# Altium footprint library Relay_THT.PcbLib: 117 footprints (part 4 of 8)
Each footprint in its own frame and in the unit in brackets; x right, y up, seen from the top. Pads: shape width x height; smd on the part's side, far side on the other; paste and mask are expansions set on the pad; w line width, h text height; cw(c..) or ccw(c..) is an arc to the next point about the centre after c.
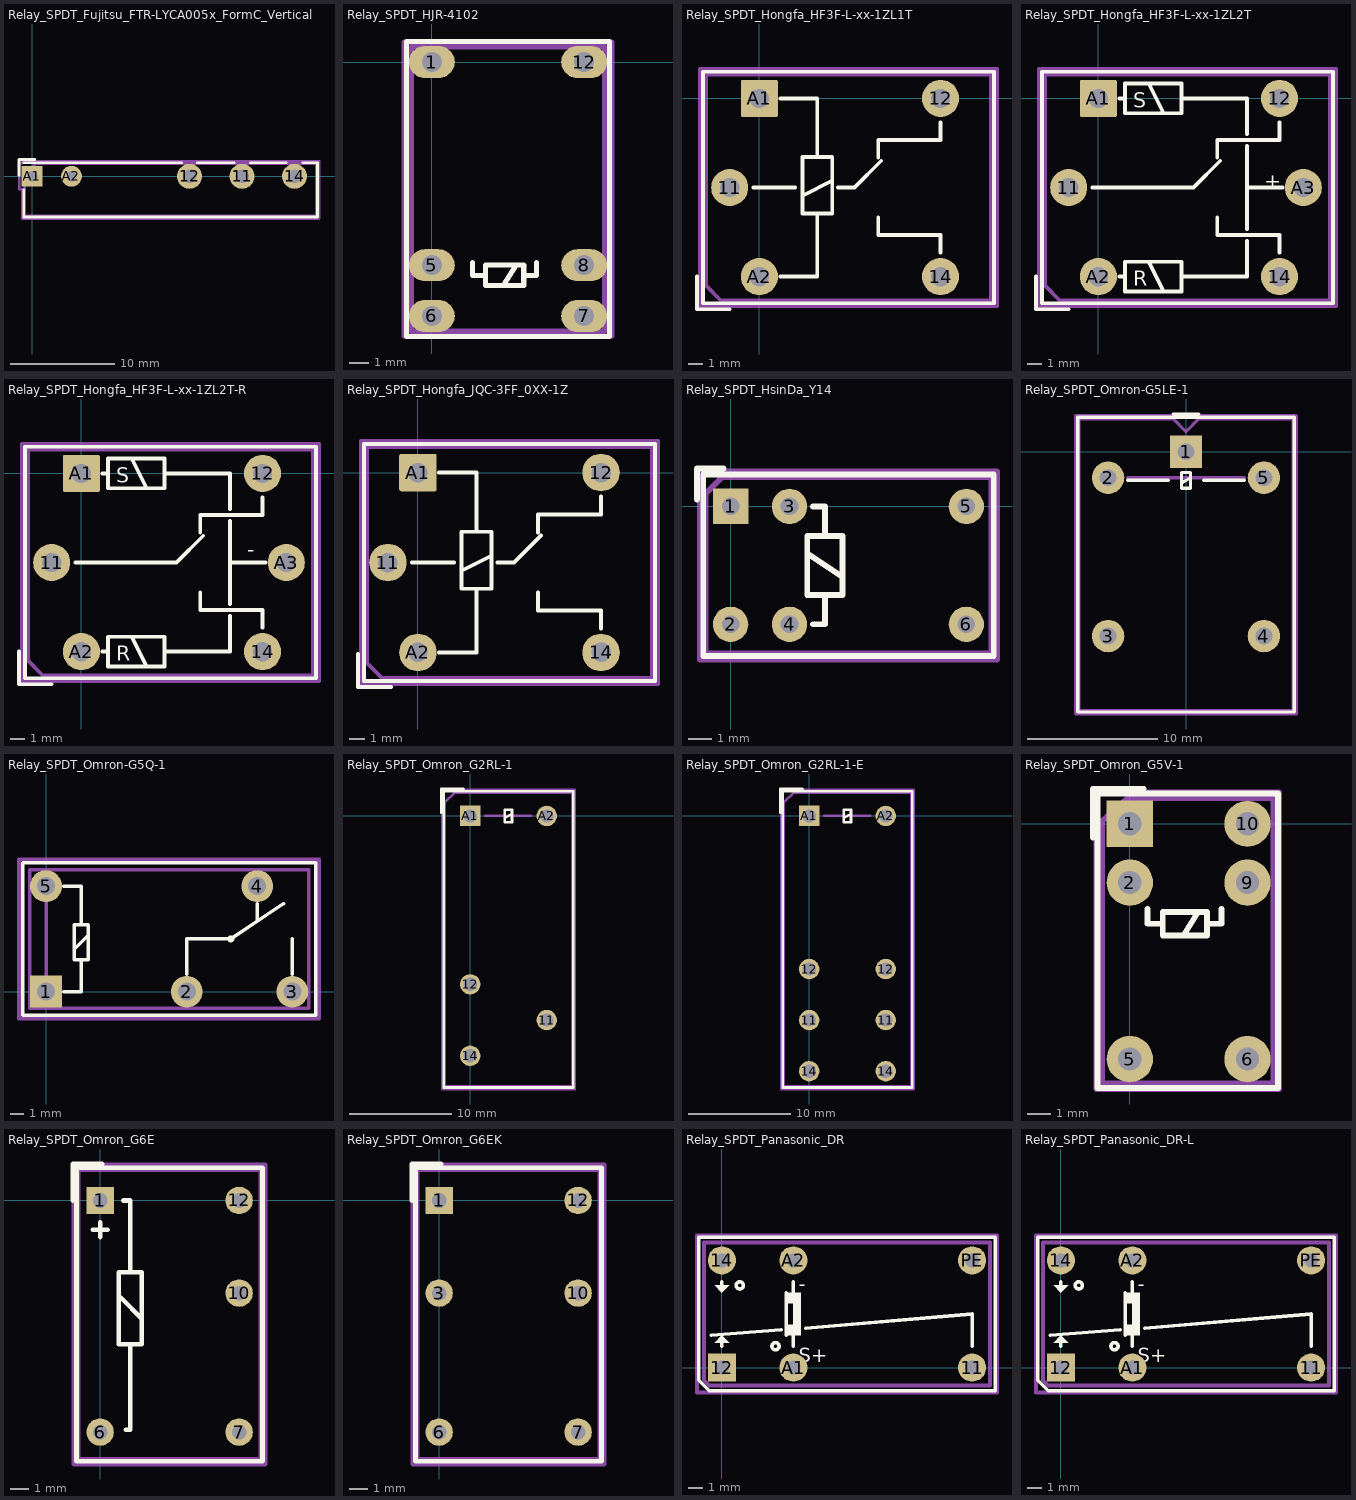
[diagram p3: the footprints below, top view; thin cyan lines are the x and y axes]

## Relay_SPDT_Fujitsu_FTR-LYCA005x_FormC_Vertical [mm]
pads (5):
  round 2.4 hole 1.3: 11(20.16,0) 12(15.12,0) 14(25.2,0)
  rect 2x2 hole 1: A1(0,0)
  round 2 hole 1: A2(3.78,0)
F.SilkS:
  lines w0.254: -1.26,0.11 -1.26,1.61 0.24,1.61 ; -0.81,-1.3 -0.81,-3.91 27.41,-3.91 27.41,1.31 26,1.31 ; -0.81,1.31 14.35,1.31 ; 15.87,1.31 19.4,1.31 ; 20.94,1.31 24.42,1.31
F.Fab:
  lines w0.254: -0.7,-3.8 27.3,-3.8 27.3,1.2 0.3,1.2 -0.7,0.2 -0.7,-3.8
  text "'.Designator'" at 9.253,-2.14 h1
F.CrtYd:
  lines w0.254: -1.25,-1.25 -0.95,-1.25 -0.95,-4.05 27.55,-4.05 27.55,1.45 -0.95,1.45 -0.95,1.25 -1.25,1.25 -1.25,-1.25

## Relay_SPDT_HJR-4102 [mm]
pads (6):
  rrect100% 2.3x1.6 hole 1: 1(0,0) 5(0,-10.16) 6(0,-12.7) 7(7.62,-12.7) 8(7.62,-10.16) 12(7.62,0)
F.SilkS:
  lines w0.254: 2.032,-10.033 2.032,-10.668 2.692,-10.668 ; 3.581,-11.176 4.216,-10.16 ; 4.597,-10.668 5.232,-10.668 5.232,-10.033 ; -1.27,-13.716 -1.27,1.016 8.89,1.016 8.89,-13.716 -1.27,-13.716 ; 2.692,-11.176 2.692,-10.16 4.597,-10.16 4.597,-11.176 2.692,-11.176
F.Fab:
  lines w0.254: -1.016,-13.462 -1.016,0.762 8.636,0.762 8.636,-13.462 -1.016,-13.462
  text "'.Designator'" at -0.237,-7.19 h1
F.CrtYd:
  lines w0.254: -1.4,-13.71 -1.4,1.01 9.02,1.01 9.02,-13.71 -1.4,-13.71
3D body "Relay_SPDT_HJR-4102.step": height 11.4, standoff -3.6, extent -1.35,-14.45 9.05,1.25

## Relay_SPDT_Hongfa_HF3F-L-xx-1ZL1T [mm]
pads (5):
  round 2.5 hole 1.3: 11(-2,-6) 12(12.2,0) 14(12.2,-12) A2(0,-12)
  rrect10% 2.5x2.5 hole 1.3: A1(0,0)
F.SilkS:
  lines w0.254: -4.2,-12 -4.2,-14.2 -2,-14.2 ; -0.4,-6 2.4,-6 ; 1.4,-12 3.9,-12 3.9,-7.75 ; 1.4,0 3.9,0 3.9,-3.95 ; 2.9,-6.55 4.9,-5.55 ; 5.3,-6 6.4,-6 8.2,-4.2 ; 8,-8 8,-9.2 12.2,-9.2 12.2,-10.4 ; 8,-4 8,-2.8 12.2,-2.8 12.2,-1.6 ; -3.8,-13.8 15.8,-13.8 15.8,1.8 -3.8,1.8 -3.8,-13.8 ; 2.9,-7.75 4.9,-7.75 4.9,-3.95 2.9,-3.95 2.9,-7.75
F.Fab:
  lines w0.254: -3.6,-12.6 -2.6,-13.6 15.6,-13.6 15.6,1.6 -3.6,1.6 -3.6,-12.6
  text "'.Designator'" at 2.153,-6.84 h1
F.CrtYd:
  lines w0.254: -4,-14 16,-14 16,2 -4,2 -4,-14

## Relay_SPDT_Hongfa_HF3F-L-xx-1ZL2T [mm]
pads (6):
  round 2.5 hole 1.3: 11(-2,-6) 12(12.2,0) 14(12.2,-12) A2(0,-12) A3(13.8,-6)
  rrect10% 2.5x2.5 hole 1.3: A1(0,0)
F.SilkS:
  lines w0.254: -4.2,-12 -4.2,-14.2 -2,-14.2 ; -0.4,-6 6.4,-6 8.2,-4.2 ; 1.4,-12 1.8,-12 ; 1.4,0 1.8,0 ; 3.4,-11 4.4,-13 ; 3.4,1 4.4,-1 ; 5.6,-12 10,-12 10,-9.6 ; 5.6,0 10,0 10,-2.4 ; 8,-8 8,-9.2 12.2,-9.2 12.2,-10.4 ; 8,-4 8,-2.8 12.2,-2.8 12.2,-1.6 ; 10,-8.8 10,-3.2 ; 10,-6 12.4,-6 ; -3.8,-13.8 -3.8,1.8 15.8,1.8 15.8,-13.8 -3.8,-13.8 ; 1.8,-13 1.8,-11 5.6,-11 5.6,-13 1.8,-13 ; 1.8,-1 1.8,1 5.6,1 5.6,-1 1.8,-1
  text "S" at 2.347,-0.62 h1
  text "R" at 2.347,-12.62 h1
  text "+" at 11.18,-6.048 h1
F.Fab:
  lines w0.254: -3.6,-12.6 -3.6,1.6 15.6,1.6 15.6,-13.6 -2.6,-13.6 -3.6,-12.6
  text "'.Designator'" at 2.153,-6.84 h1
F.CrtYd:
  lines w0.254: -4,-14 -4,2 16,2 16,-14 -4,-14

## Relay_SPDT_Hongfa_HF3F-L-xx-1ZL2T-R [mm]
pads (6):
  round 2.5 hole 1.3: 11(-2,-6) 12(12.2,0) 14(12.2,-12) A2(0,-12) A3(13.8,-6)
  rrect10% 2.5x2.5 hole 1.3: A1(0,0)
F.SilkS:
  lines w0.254: -4.2,-12 -4.2,-14.2 -2,-14.2 ; -0.4,-6 6.4,-6 8.2,-4.2 ; 1.4,-12 1.8,-12 ; 1.4,0 1.8,0 ; 3.4,-11 4.4,-13 ; 3.4,1 4.4,-1 ; 5.6,-12 10,-12 10,-9.6 ; 5.6,0 10,0 10,-2.4 ; 8,-8 8,-9.2 12.2,-9.2 12.2,-10.4 ; 8,-4 8,-2.8 12.2,-2.8 12.2,-1.6 ; 10,-8.8 10,-3.2 ; 10,-6 12.4,-6 ; -3.8,-13.8 -3.8,1.8 15.8,1.8 15.8,-13.8 -3.8,-13.8 ; 1.8,-13 1.8,-11 5.6,-11 5.6,-13 1.8,-13 ; 1.8,-1 1.8,1 5.6,1 5.6,-1 1.8,-1
  text "S" at 2.347,-0.62 h1
  text "R" at 2.347,-12.62 h1
  text "-" at 11.18,-5.62 h1
F.Fab:
  lines w0.254: -3.6,-12.6 -3.6,1.6 15.6,1.6 15.6,-13.6 -2.6,-13.6 -3.6,-12.6
  text "'.Designator'" at 2.153,-6.84 h1
F.CrtYd:
  lines w0.254: -4,-14 -4,2 16,2 16,-14 -4,-14

## Relay_SPDT_Hongfa_JQC-3FF_0XX-1Z [mm]
pads (5):
  round 2.5 hole 1.3: 11(-2,-6) 12(12.2,0) 14(12.2,-12) A2(0,-12)
  rrect10% 2.5x2.5 hole 1.3: A1(0,0)
F.SilkS:
  lines w0.254: -4,-12.1 -4,-14.3 -1.8,-14.3 ; -0.4,-6 2.4,-6 ; 1.4,-12 3.9,-12 3.9,-7.75 ; 1.4,0 3.9,0 3.9,-3.95 ; 2.9,-6.55 4.9,-5.55 ; 5.3,-6 6.4,-6 8.2,-4.2 ; 8,-8 8,-9.2 12.2,-9.2 12.2,-10.4 ; 8,-4 8,-2.8 12.2,-2.8 12.2,-1.6 ; -3.6,-13.9 15.8,-13.9 15.8,1.9 -3.6,1.9 -3.6,-13.9 ; 2.9,-7.75 4.9,-7.75 4.9,-3.95 2.9,-3.95 2.9,-7.75
F.Fab:
  lines w0.254: -3.4,-12.7 -2.4,-13.7 15.6,-13.7 15.6,1.7 -3.4,1.7 -3.4,-12.7
  text "'.Designator'" at 2.153,-6.84 h1
F.CrtYd:
  lines w0.254: -3.8,-14.1 16,-14.1 16,2.1 -3.8,2.1 -3.8,-14.1

## Relay_SPDT_HsinDa_Y14 [mil]
pads (6):
  rect 60x60 hole 30: 1(0,0)
  round 60 hole 30: 2(0,-200) 3(100,0) 4(100,-200) 5(400,0) 6(400,-200)
F.SilkS:
  lines w10: -57,11.5 -57,64 -12,64 ; 130,-80 190,-120 ; 140,-200 160,-200 160,-150 ; 140,0 160,0 160,-50 ; -46.46,-253.94 -46.46,53.94 446.46,53.94 446.46,-253.94 -46.46,-253.94 ; 130,-150 130,-50 190,-50 190,-150 130,-150
F.Fab:
  lines w10: -42.5,21.5 -15,49 ; -42.13,21.5 -42.13,-249.61 442.13,-249.61 442.13,49.61 -15,49.61
  text "'.Designator'" at 150.68,-133.08 h39.37
F.CrtYd:
  lines w10: -51.97,-259.45 -51.97,59.45 451.97,59.45 451.97,-259.45 -51.97,-259.45
3D body "Relay_SPDT_HsinDa_Y14.step": height 405.51, standoff -137.8, extent -42.13,-249.61 442.13,49.61

## Relay_SPDT_Omron-G5LE-1 [mm]
pads (5):
  rect 2.5x2.5 hole 1.3: 1(0,0)
  rrect100% 2.5x2.5 hole 1.3: 2(-6,-2) 3(-6,-14.2) 4(6,-14.2) 5(6,-2)
F.SilkS:
  lines w0.254: -4.5,-2.2 -1.35,-2.2 ; -1,2.91 1,2.91 ; -0.35,-2.4 0.35,-2 ; 1.35,-2.2 4.5,-2.2 ; -8.35,-20.05 -8.35,2.65 8.35,2.65 8.35,-20.05 -8.35,-20.05 ; -0.35,-2.8 -0.35,-1.6 0.35,-1.6 0.35,-2.8 -0.35,-2.8
F.Fab:
  lines w0.254: -4.5,-2 4.5,-2 ; -8.25,-19.95 -8.25,2.55 -1,2.55 0,1.55 1,2.55 8.25,2.55 8.25,-19.95 -8.25,-19.95
  text "'.Designator'" at -4.047,-9.54 h1
F.CrtYd:
  lines w0.254: -8.5,-20.2 -8.5,2.8 8.5,2.8 8.5,-20.2 -8.5,-20.2
3D body "Relay_SPDT_Omron-G5LE-1.step": height 19.1, standoff -3.4, extent -8.25,-19.95 8.25,2.55

## Relay_SPDT_Omron-G5Q-1 [mm]
pads (5):
  rect 2.3x2.3 hole 1.3: 1(0,0)
  round 2.3 hole 1.3: 2(10.16,0) 3(17.78,0) 4(15.24,7.62) 5(0,7.62)
F.SilkS:
  circle w0.254: c13.335,3.81 r0.127
  lines w0.254: 1.27,0 2.54,0 2.54,2.29 ; 1.27,7.62 2.54,7.62 2.54,4.83 ; 2.03,3.05 3.05,4.06 ; 10.16,1.27 10.16,3.81 13.335,3.81 17.145,6.35 ; 15.24,5.08 15.24,6.35 ; 17.78,1.27 17.78,3.81 ; 2.54,2.29 3.05,2.29 3.05,4.83 2.54,4.83 ; 2.54,2.29 2.03,2.29 2.03,4.83 2.54,4.83 ; -1.68,-1.69 19.46,-1.69 19.46,9.31 -1.68,9.31 -1.68,-1.69
F.Fab:
  lines w0.254: 0,1 0,6.5 ; -1.18,-1.19 18.96,-1.19 18.96,8.81 -1.18,8.81 -1.18,-1.19
  text "'.Designator'" at 4.843,2.97 h1
F.CrtYd:
  lines w0.254: -1.95,-1.95 19.7,-1.95 19.7,9.55 -1.95,9.55 -1.95,-1.95

## Relay_SPDT_Omron_G2RL-1 [mm]
pads (5):
  round 2 hole 1.3: 11(7.5,-20) 12(0,-16.5) 14(0,-23.5) A2(7.5,0)
  rect 2x2 hole 1.3: A1(0,0)
F.SilkS:
  lines w0.254: -2.84,0.3 -2.84,2.64 -0.65,2.64 ; 3.4,-0.2 4.1,0.2 ; -2.6,-26.6 10.1,-26.6 10.1,2.4 -2.6,2.4 -2.6,-26.6 ; 3.4,-0.6 4.1,-0.6 4.1,0.6 3.4,0.6 3.4,-0.6
F.Fab:
  lines w0.254: 1.5,0 6,0 ; -2.5,-26.5 10,-26.5 10,2.3 -1.5,2.3 -2.5,1.3 -2.5,-26.5
  text "'.Designator'" at 4.59,-16.047 h1
F.CrtYd:
  lines w0.254: -2.75,-26.75 10.25,-26.75 10.25,2.55 -2.75,2.55 -2.75,-26.75

## Relay_SPDT_Omron_G2RL-1-E [mm]
pads (8):
  round 2 hole 1.3: 11(0,-20) 11(7.5,-20) 12(0,-15) 12(7.5,-15) 14(0,-25) 14(7.5,-25) A2(7.5,0)
  rect 2x2 hole 1.3: A1(0,0)
F.SilkS:
  lines w0.254: -2.84,0.3 -2.84,2.64 -0.65,2.64 ; 3.4,-0.2 4.1,0.2 ; -2.6,-26.6 10.1,-26.6 10.1,2.4 -2.6,2.4 -2.6,-26.6 ; 3.4,-0.6 4.1,-0.6 4.1,0.6 3.4,0.6 3.4,-0.6
F.Fab:
  lines w0.254: 1.5,0 6,0 ; -2.5,-26.5 10,-26.5 10,2.3 -1.5,2.3 -2.5,1.3 -2.5,-26.5
  text "'.Designator'" at 4.59,-16.047 h1
F.CrtYd:
  lines w0.254: -2.75,-26.75 10.25,-26.75 10.25,2.55 -2.75,2.55 -2.75,-26.75

## Relay_SPDT_Omron_G5V-1 [mm]
pads (6):
  rect 2x2 hole 1: 1(0,0)
  round 2 hole 1: 2(0,-2.54) 5(0,-10.16) 6(5.08,-10.16) 9(5.08,-2.54) 10(5.08,0)
F.SilkS:
  lines w0.254: -1.6,-0.6 -1.6,1.5 0.6,1.5 ; 0.762,-3.683 0.762,-4.318 1.422,-4.318 ; 2.311,-4.826 2.946,-3.81 ; 3.327,-4.318 3.962,-4.318 3.962,-3.683 ; -1.4,-11.4 -1.4,1.3 6.4,1.3 6.4,-11.4 -1.4,-11.4 ; 1.422,-4.826 1.422,-3.81 3.327,-3.81 3.327,-4.826 1.422,-4.826
F.Fab:
  lines w0.254: -1.2,-11.2 -1.2,0.1 -0.1,1.1 6.2,1.1 6.2,-11.2 -1.2,-11.2
  text "'.Designator'" at -1.507,-7.19 h1
F.CrtYd:
  lines w0.254: -1.45,-11.45 -1.45,1.35 6.45,1.35 6.45,-11.45 -1.45,-11.45
3D body "Relay_SPDT_Omron_G5V-1.step": height 10, standoff -3.4, extent -1.11,-11.23 6.19,1.07

## Relay_SPDT_Omron_G6E [mil]
pads (5):
  rect 59.1x59.1 hole 31.5: 1(0,0)
  round 59.1 hole 31.5: 6(0,-500) 7(300,-500) 10(300,-200) 12(300,0)
F.SilkS:
  lines w10: -59.06,0 -59.06,78.74 3.94,78.74 ; -15.75,-62.99 15.75,-62.99 ; 0,-78.74 0,-47.24 ; 45,-210 90,-255 ; 50,0 65,0 65,-150 ; 55,-495 65,-495 65,-310 ; -51.18,-562.99 -51.18,70.87 350.39,70.87 350.39,-562.99 -51.18,-562.99 ; 40,-310 40,-155 90,-155 90,-310 40,-310
F.Fab:
  lines w10: -47.24,-559.06 -47.24,66.93 346.46,66.93 346.46,-559.06 -47.24,-559.06
  text "'.Designator'" at -9.32,-283.08 h39.37
F.CrtYd:
  lines w10: -57.09,-568.9 -57.09,76.77 356.3,76.77 356.3,-568.9 -57.09,-568.9
3D body "Relay_SPDT_Omron_G6E.step": height 311.02, standoff -133.86, extent -46.85,-561.02 342.91,64.96

## Relay_SPDT_Omron_G6EK [mil]
pads (6):
  rect 59.1x59.1 hole 31.5: 1(0,0)
  round 59.1 hole 31.5: 3(0,-200) 6(0,-500) 7(300,-500) 10(300,-200) 12(300,0)
F.SilkS:
  lines w10: -59.06,0 -59.06,78.74 3.94,78.74 ; -51.18,-562.99 -51.18,70.87 350.39,70.87 350.39,-562.99 -51.18,-562.99
F.Fab:
  lines w10: -47.24,-559.06 -47.24,66.93 346.46,66.93 346.46,-559.06 -47.24,-559.06
  text "'.Designator'" at -9.32,-283.08 h39.37
F.CrtYd:
  lines w10: -57.09,-568.9 -57.09,76.77 356.3,76.77 356.3,-568.9 -57.09,-568.9
3D body "Relay_SPDT_Omron_G6EK.step": height 311.02, standoff -133.86, extent -46.85,-561.02 342.91,64.96

## Relay_SPDT_Panasonic_DR [mm]
pads (6):
  round 2 hole 1: 11(17.78,0) 14(0,7.62) A1(5.08,0) A2(5.08,7.62) PE(17.78,7.62)
  rect 2x2 hole 1: 12(0,0)
F.SilkS:
  circle w0.254: c3.81,1.524 r0.254
  circle w0.254: c1.27,5.842 r0.254
  region: 5.59,2.286 4.572,2.286 4.572,3.048 5.08,3.048 5.08,4.572 4.572,4.572 4.572,5.334 5.589,5.334
  region: 0.508,1.778 -0.508,1.778 0,2.286
  region: 0,5.334 -0.508,5.842 0.508,5.842
  lines w0.254: -0.762,2.286 4.216,2.692 ; 0,1.524 0,1.778 ; 0,5.842 0,6.096 ; 4.572,2.286 4.572,5.334 ; 5.08,1.524 5.08,2.286 ; 5.08,5.334 5.08,6.096 ; 5.944,2.794 17.78,3.81 17.78,1.524 ; -1.651,-0.89 -0.89,-1.651 19.431,-1.651 19.431,9.271 -1.651,9.271 -1.651,-0.89
  text "S+" at 5.468,0.396 h1
  text "-" at 5.468,5.468 h1
F.Fab:
  lines w0.254: -1.27,-0.89 -0.89,-1.27 19.05,-1.27 19.05,8.89 -1.27,8.89 -1.27,-0.89
  text "'.Designator'" at 5.478,2.652 h1
F.CrtYd:
  lines w0.254: -1.77,-1.77 19.55,-1.77 19.55,9.39 -1.77,9.39 -1.77,-1.77

## Relay_SPDT_Panasonic_DR-L [mm]
pads (6):
  round 2 hole 1: 11(17.78,0) 14(0,7.62) A1(5.08,0) A2(5.08,7.62) PE(17.78,7.62)
  rect 2x2 hole 1: 12(0,0)
F.SilkS:
  circle w0.254: c1.27,5.842 r0.254
  circle w0.254: c3.81,1.524 r0.254
  region: 0,5.334 -0.508,5.842 0.508,5.842
  region: 0.508,1.778 -0.508,1.778 0,2.286
  region: 5.59,2.286 4.572,2.286 4.572,3.048 5.08,3.048 5.08,4.572 4.572,4.572 4.572,5.334 5.589,5.334
  lines w0.254: -0.762,2.286 4.216,2.692 ; 0,1.524 0,1.778 ; 0,5.842 0,6.096 ; 4.572,2.286 4.572,5.334 ; 5.08,1.524 5.08,2.286 ; 5.08,5.334 5.08,6.096 ; 5.944,2.794 17.78,3.81 17.78,1.524 ; -1.651,-0.89 -1.651,9.271 19.431,9.271 19.431,-1.651 -0.89,-1.651 -1.651,-0.89
  text "-" at 5.468,5.468 h1
  text "S+" at 5.468,0.396 h1
F.Fab:
  lines w0.254: -1.27,-0.89 -1.27,8.89 19.05,8.89 19.05,-1.27 -0.89,-1.27 -1.27,-0.89
  text "'.Designator'" at 5.478,2.652 h1
F.CrtYd:
  lines w0.254: -1.77,-1.77 -1.77,9.39 19.55,9.39 19.55,-1.77 -1.77,-1.77